# EAGLE library part PINHD-3X21 (library 25pinhead)
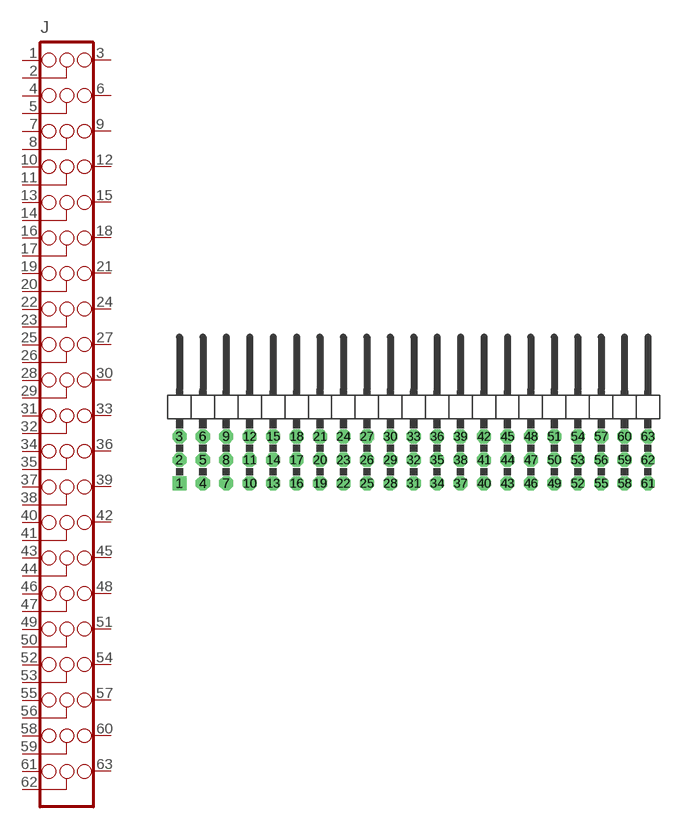
[diagram p46: symbol with the pads of 3X21/90; footprint 3X21/90]

Designator prefix J

## PINHD-3X21/90  [3X21/90]
1  1  pas
2  2  pas
3  3  pas
4  4  pas
5  5  pas
6  6  pas
7  7  pas
8  8  pas
9  9  pas
10  10  pas
11  11  pas
12  12  pas
13  13  pas
14  14  pas
15  15  pas
16  16  pas
17  17  pas
18  18  pas
19  19  pas
20  20  pas
21  21  pas
22  22  pas
23  23  pas
24  24  pas
25  25  pas
26  26  pas
27  27  pas
28  28  pas
29  29  pas
30  30  pas
31  31  pas
32  32  pas
33  33  pas
34  34  pas
35  35  pas
36  36  pas
37  37  pas
38  38  pas
39  39  pas
40  40  pas
41  41  pas
42  42  pas
43  43  pas
44  44  pas
45  45  pas
46  46  pas
47  47  pas
48  48  pas
49  49  pas
50  50  pas
51  51  pas
52  52  pas
53  53  pas
54  54  pas
55  55  pas
56  56  pas
57  57  pas
58  58  pas
59  59  pas
60  60  pas
61  61  pas
62  62  pas
63  63  pas

## Footprint 3X21/90 (pad centres in mm)
drill 1.016 square: 1 -25.4,-8.89
drill 1.016 octagon: 2 -25.4,-6.35; 3 -25.4,-3.81; 4 -22.86,-8.89; 5 -22.86,-6.35; 6 -22.86,-3.81; 7 -20.32,-8.89; 8 -20.32,-6.35; 9 -20.32,-3.81; 10 -17.78,-8.89; 11 -17.78,-6.35; 12 -17.78,-3.81; 13 -15.24,-8.89; 14 -15.24,-6.35; 15 -15.24,-3.81; 16 -12.7,-8.89; 17 -12.7,-6.35; 18 -12.7,-3.81; 19 -10.16,-8.89; 20 -10.16,-6.35; 21 -10.16,-3.81; 22 -7.62,-8.89; 23 -7.62,-6.35; 24 -7.62,-3.81; 25 -5.08,-8.89; 26 -5.08,-6.35; 27 -5.08,-3.81; 28 -2.54,-8.89; 29 -2.54,-6.35; 30 -2.54,-3.81; 31 0,-8.89; 32 0,-6.35; 33 0,-3.81; 34 2.54,-8.89; 35 2.54,-6.35; 36 2.54,-3.81; 37 5.08,-8.89; 38 5.08,-6.35; 39 5.08,-3.81; 40 7.62,-8.89; 41 7.62,-6.35; 42 7.62,-3.81; 43 10.16,-8.89; 44 10.16,-6.35; 45 10.16,-3.81; 46 12.7,-8.89; 47 12.7,-6.35; 48 12.7,-3.81; 49 15.24,-8.89; 50 15.24,-6.35; 51 15.24,-3.81; 52 17.78,-8.89; 53 17.78,-6.35; 54 17.78,-3.81; 55 20.32,-8.89; 56 20.32,-6.35; 57 20.32,-3.81; 58 22.86,-8.89; 59 22.86,-6.35; 60 22.86,-3.81; 61 25.4,-8.89; 62 25.4,-6.35; 63 25.4,-3.81